# Altium footprint library 4-C-Tan+SMT.PcbLib: 75 footprints (part 1 of 5)
Each footprint in its own frame and in the unit in brackets; x right, y up, seen from the top. Pads: shape width x height; smd on the part's side, far side on the other; paste and mask are expansions set on the pad; w line width, h text height; cw(c..) or ccw(c..) is an arc to the next point about the centre after c.
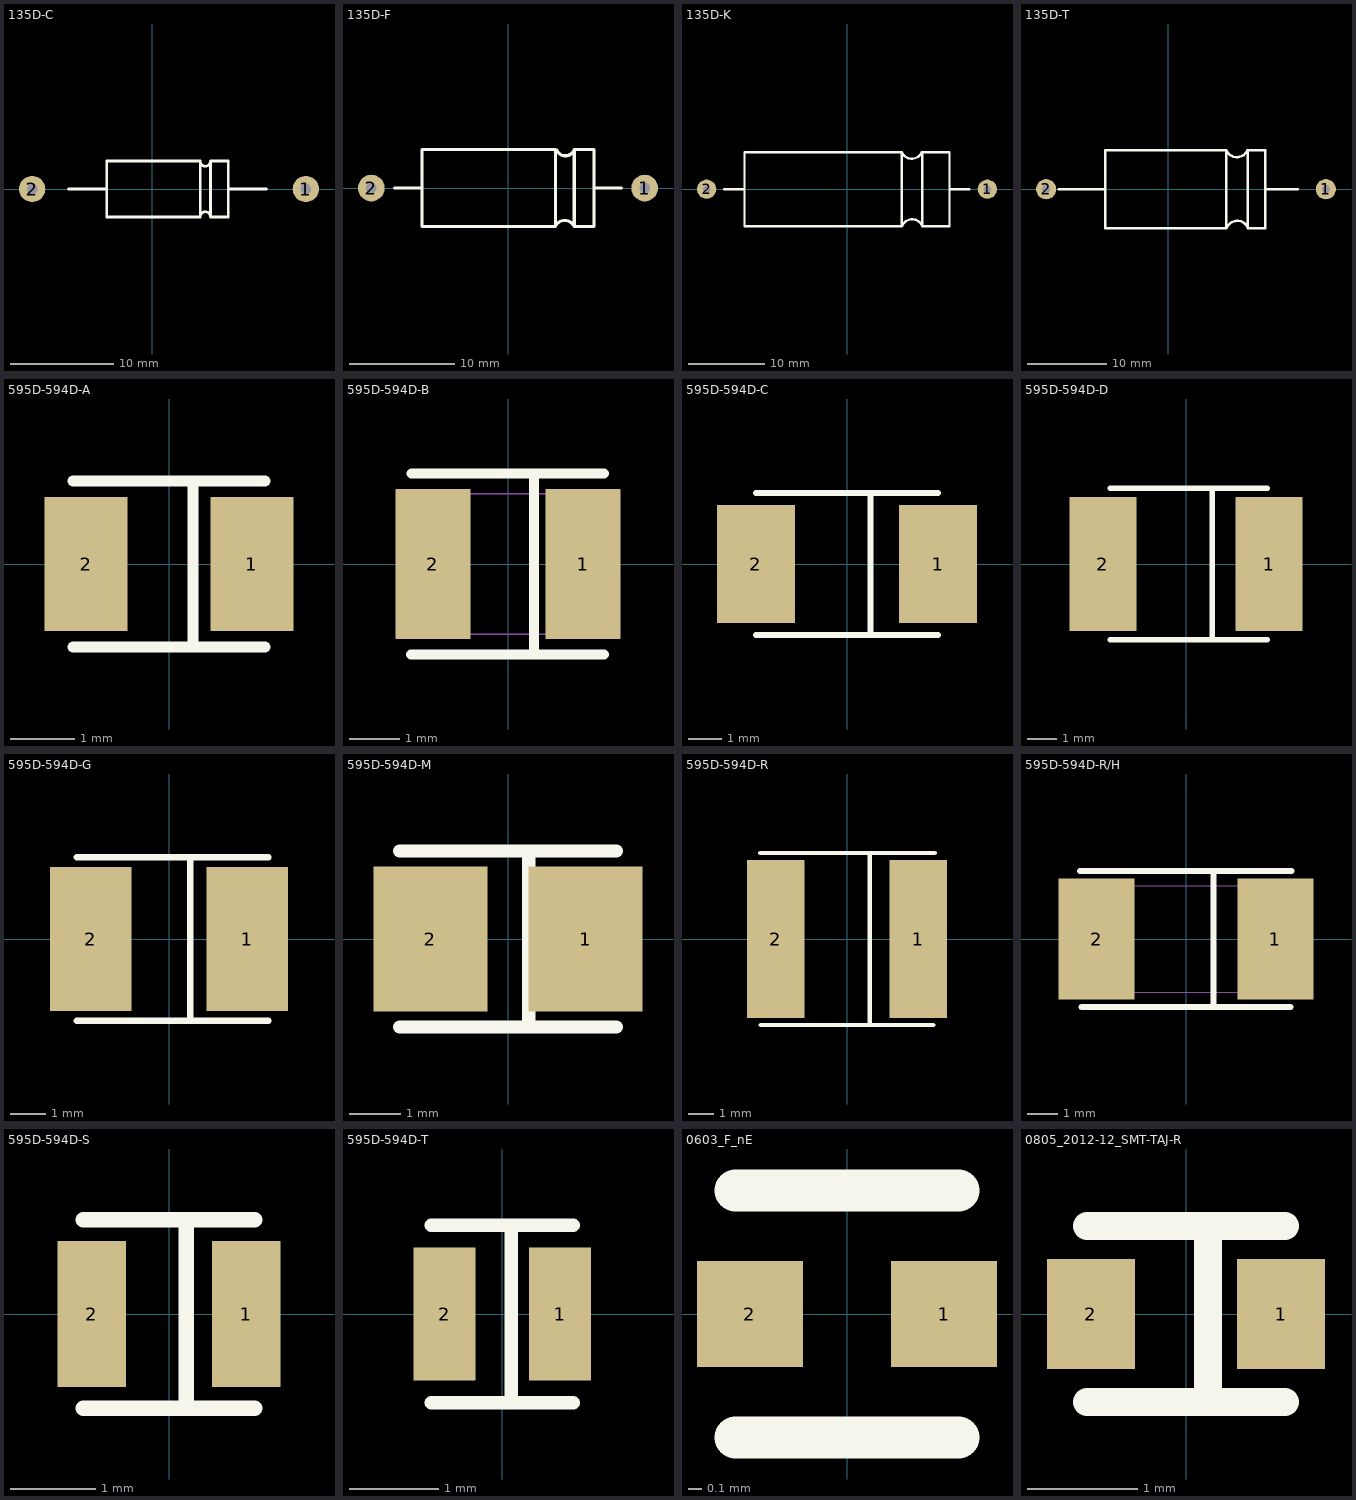
[diagram p0: the footprints below, top view; thin cyan lines are the x and y axes]

## 135D-C [mm]
pads (2):
  round 2.54 hole 1.016 mask+0.07: 1(14.8,0)
  round 2.54 hole 1.016: 2(-11.6,0)
Top Overlay:
  lines w0.254: -8.1,0 -4.4,0 ; 4.615,-2.579 cw(c5.1,-2.7) 5.6,-2.7 ; 4.615,2.579 ccw(c5.1,2.7) 5.6,2.7 ; 7.3,0 11,0 ; 5.6,-2.7 5.6,2.7 ; 5.6,-2.7 7.3,-2.7 7.3,2.7 5.6,2.7 ; -4.4,-2.7 -4.4,2.7 4.6,2.7 4.6,-2.7 -4.4,-2.7
3D body "135-c.stp": height 5.39, standoff -2.39, extent -11.905,-2.4 15.105,2.38
3D body "v254-10.stp": height 0.02, standoff -1.65, extent -12.87,-1.27 -10.33,1.27
3D body "v254-10.stp": height 0.02, standoff -1.65, extent 13.53,-1.27 16.07,1.27

## 135D-F [mm]
pads (2):
  round 2.54 hole 1.016 mask+0.07: 1(13,0)
  round 2.54 hole 1.016: 2(-13,0)
Top Overlay:
  lines w0.305: -10.795,0 -8.179,0 ; 4.483,-3.668 cw(c5.397,-4.074) 6.305,-3.655 ; 4.633,3.595 ccw(c5.464,3.978) 6.299,3.607 ; 8.23,0 10.795,0 ; -8.179,-3.658 4.521,-3.658 4.521,3.658 -8.179,3.658 -8.179,-3.658 ; 6.299,-3.658 6.299,3.658 8.179,3.658 8.179,-3.658 6.299,-3.658
3D body "v254-10.stp": height 0.02, standoff -1.65, extent 11.73,-1.27 14.27,1.27
3D body "v254-10.stp": height 0.02, standoff -1.65, extent -14.27,-1.27 -11.73,1.27
3D body "135d-f.stp": height 7.2, standoff -3.6, extent -13.462,-3.556 13.178,3.644

## 135D-K [mm]
pads (2):
  round 2.54 hole 1.016 mask+0.07: 1(18.5,0)
  round 2.54 hole 1.016: 2(-18.5,0)
Top Overlay:
  lines w0.305: -16.205,0 -13.589,0 ; 7.224,4.881 ccw(c8.534,5.436) 9.852,4.899 ; 7.268,-4.848 cw(c8.585,-5.385) 9.895,-4.831 ; 9.906,-4.877 9.906,4.877 13.513,4.877 13.513,-4.877 9.957,-4.877 ; 13.589,0 16.154,0 ; -13.513,-4.877 -13.513,4.877 7.214,4.877 7.214,-4.877 -13.513,-4.877
3D body "v254-10.stp": height 0.02, standoff -1.65, extent 17.23,-1.27 19.77,1.27
3D body "v254-10.stp": height 0.02, standoff -1.65, extent -19.77,-1.27 -17.23,1.27
3D body "135d-k.stp": height 10, standoff -2.2, extent -18.847,-4.978 18.793,5.022

## 135D-T [mm]
pads (2):
  round 2.54 hole 1.016 mask+0.07: 1(19.8,0)
  round 2.54 hole 1.016: 2(-15.3,0)
Top Overlay:
  lines w0.305: -13.716,0 -8,0 ; 7.324,4.881 ccw(c8.634,5.436) 9.952,4.899 ; 7.368,-4.848 cw(c8.685,-5.385) 9.995,-4.831 ; 10.006,-4.877 10.006,4.877 12.2,4.877 12.2,-4.877 10.057,-4.877 ; 12.3,0 16.254,0 ; -7.9,-4.877 -7.9,4.877 7.314,4.877 7.314,-4.877 -7.9,-4.877
3D body "v254-10.stp": height 0.02, standoff -1.65, extent 18.53,-1.27 21.07,1.27
3D body "v254-10.stp": height 0.02, standoff -1.65, extent -16.57,-1.27 -14.03,1.27
3D body "135-t.stp": height 9.66, standoff -2, extent -15.631,-4.73 20.031,4.8

## 595D-594D-A [mm]
pads (2):
  rect 1.3x2.1 smd mask+0.07: 1(1.3,0)
  rect 1.3x2.1 smd: 2(-1.3,0)
Top Overlay:
  lines w0.178: -1.5,-1.301 1.5,-1.3 ; -1.5,1.301 1.5,1.3 ; 0.376,-1.3 0.376,1.3
3D body "595-a.stp": height 1.4, standoff 0, extent -1.65,-0.9 2.05,0.9
3D body "p210-130.stp": height 0.02, standoff 0, extent -1.95,-1.05 -0.65,1.05
3D body "p210-130.stp": height 0.02, standoff 0, extent 0.65,-1.05 1.95,1.05

## 595D-594D-B [mm]
pads (2):
  rect 1.5x3 smd mask+0.07: 1(1.5,0)
  rect 1.5x3 smd: 2(-1.5,0)
Top Overlay:
  lines w0.2: -1.943,-1.813 1.918,-1.813 ; -1.93,1.813 1.918,1.813 ; 0.521,-1.8 0.521,1.8
Mechanical 15:
  lines w0.025: -2,-1.4 -2,1.4 2,1.4 2,-1.4 -2,-1.4
3D body "tan595d-b.stp": height 1.9, standoff 0, extent -1.598,-1.305 1.802,1.295
3D body "p300-150.stp": height 0.02, standoff 0, extent -2.25,-1.5 -0.75,1.5
3D body "p300-150.stp": height 0.02, standoff 0, extent 0.75,-1.5 2.25,1.5

## 595D-594D-C [mm]
pads (2):
  rect 2.3x3.5 smd mask+0.07: 1(2.7,0)
  rect 2.3x3.5 smd: 2(-2.7,0)
Top Overlay:
  lines w0.178: -2.7,-2.103 2.7,-2.103 ; -2.7,2.103 2.7,2.103 ; 0.7,-2.1 0.7,2.1
3D body "595-c.stp": height 2.5, standoff 0, extent -2.95,-1.6 4.15,1.6
3D body "p350-230.stp": height 0.02, standoff 0, extent -3.85,-1.75 -1.55,1.75
3D body "p350-230.stp": height 0.02, standoff 0, extent 1.55,-1.75 3.85,1.75

## 595D-594D-D [mm]
pads (2):
  rect 2.3x4.6 smd mask+0.07: 1(2.85,0) 2(-2.85,0)
Top Overlay:
  lines w0.178: -2.6,-2.603 2.8,-2.603 ; -2.6,2.603 2.8,2.603 ; 0.9,-2.6 0.9,2.6
3D body "595-d.stp": height 2.8, standoff 0, extent -3,-2.15 4.4,2.15
3D body "p460-230.stp": height 0.02, standoff 0, extent -4.05,-2.3 -1.75,2.3
3D body "p460-230.stp": height 0.02, standoff 0, extent 1.75,-2.3 4.05,2.3

## 595D-594D-G [mm]
pads (2):
  rect 2.3x4.05 smd mask+0.07: 1(2.2,0) 2(-2.2,0)
Top Overlay:
  lines w0.178: -2.6,-2.303 2.8,-2.303 ; -2.6,2.303 2.8,2.303 ; 0.6,-2.3 0.6,2.3
3D body "595-g.stp": height 2.2, standoff 0, extent -2.4,-1.83 3.2,1.83
3D body "p405-230.stp": height 0.02, standoff 0, extent -3.35,-2.025 -1.05,2.025
3D body "p405-230.stp": height 0.02, standoff 0, extent 1.05,-2.025 3.35,2.025

## 595D-594D-M [mm]
pads (2):
  rect 2.2x2.8 smd: 1(1.5,0)
  rect 2.2x2.8 smd mask+0.07: 2(-1.5,0)
Top Overlay:
  lines w0.254: -2.1,-1.7 2.1,-1.7 ; -2.1,1.7 2.1,1.7 ; 0.4,-1.7 0.4,1.7
3D body "595-m.stp": height 1.7, standoff 0, extent -1.4,-1.3 2.2,1.4
3D body "p280-220.stp": height 0.02, standoff 0, extent -2.6,-1.4 -0.4,1.4
3D body "p280-220.stp": height 0.02, standoff 0, extent 0.4,-1.4 2.6,1.4

## 595D-594D-R [mm]
pads (2):
  rect 2.3x6.3 smd: 1(2.85,0)
  rect 2.3x6.3 smd mask+0.07: 2(-2.85,0)
Top Overlay:
  lines w0.178: -3.467,3.44 3.505,3.44 ; -3.454,-3.44 3.454,-3.44 ; 0.902,-3.327 0.902,3.327
3D body "tan595d-r.stp": height 3.5, standoff 0, extent -3.12,-3.015 3.73,3.035
3D body "p630-230.stp": height 0.02, standoff 0, extent -4.05,-3.15 -1.75,3.15
3D body "p630-230.stp": height 0.02, standoff 0, extent 1.75,-3.15 4.05,3.15

## 595D-594D-R/H [mm]
pads (2):
  rect 2.5x4 smd mask+0.07: 1(2.95,0)
  rect 2.5x4 smd: 2(-2.95,0)
Top Overlay:
  lines w0.2: -3.492,2.25 3.48,2.25 ; -3.454,-2.25 3.454,-2.25 ; 0.902,-2.25 0.902,2.25
Mechanical 15:
  lines w0.025: -3.55,-1.75 -3.55,1.75 3.55,1.75 3.55,-1.75 -3.55,-1.75
3D body "tan595d-r.stp": height 6.02, standoff -0.03, extent -3.425,-1.74 3.425,1.76
3D body "2_5-4.stp": height 0.02, standoff 0, extent -4.25,-2 -1.75,2
3D body "2_5-4.stp": height 0.02, standoff 0, extent 1.7,-2 4.2,2

## 595D-594D-S [mm]
pads (2):
  rect 0.8x1.7 smd mask+0.07: 1(0.9,0) 2(-0.9,0)
Top Overlay:
  lines w0.178: -1,-1.1 1,-1.1 ; -1,1.1 1,1.1 ; 0.2,-1.1 0.2,1.1
3D body "595-s.stp": height 1.3, standoff 0, extent -1.5,-0.8 1.7,0.8
3D body "p170-080.stp": height 0.02, standoff 0, extent -1.3,-0.85 -0.5,0.85
3D body "p170-080.stp": height 0.02, standoff 0, extent 0.5,-0.85 1.3,0.85

## 595D-594D-T [mm]
pads (2):
  rect 0.7x1.5 smd: 1(0.65,0) 2(-0.65,0)
Top Overlay:
  lines w0.15: -0.8,-1 0.8,-1 ; -0.8,1 0.8,1 ; 0.1,-1 0.1,1
3D body "595-t.stp": height 1.1, standoff 0, extent -0.8,-0.55 1.4,0.55
3D body "p150-080.stp": height 0.02, standoff 0, extent -1.1,-0.75 -0.3,0.75
3D body "p150-080.stp": height 0.02, standoff 0, extent 0.2,-0.75 1,0.75

## 0603_F_nE [mil]
height 57.09
pads (2):
  rect 30x30 smd mask+2.76: 1(27.5,0)
  rect 30x30 smd: 2(-27.5,0)
Top Overlay:
  lines w12: -31.5,-35 31.5,-35 ; -31.5,35 31.5,35
3D body "0_762-0_762.stp": height 0.79, standoff 0, extent 12.5,-15 42.5,15
3D body "0_762-0_762.stp": height 0.79, standoff 0, extent -42.5,-15 -12.5,15
3D body "0603-vrt.stp": height 31.5, standoff 0, extent -31.5,-15.75 31.5,15.75

## 0805_2012-12_SMT-TAJ-R [mm]
pads (2):
  rect 0.8x1 smd mask+0.051: 1(0.864,0) 2(-0.864,0)
Top Overlay:
  lines w0.254: -0.9,-0.8 0.9,-0.8 ; -0.9,0.8 0.9,0.8 ; 0.2,-0.8 0.2,0.8
3D body "p100-080.stp": height 0.02, standoff 0, extent 0.5,-0.5 1.3,0.5
3D body "p100-080.stp": height 0.02, standoff 0, extent -1.3,-0.5 -0.5,0.5
3D body "0805_smt-taj-R.stp": height 1.2, standoff 0, extent -1.02,-0.68 1.03,0.67